# EAGLE library part LPS22DF (library st-microelectronics)
Low-power and high-precision MEMS nano pressure sensor 260-1260 hPa absolute digital output barometer
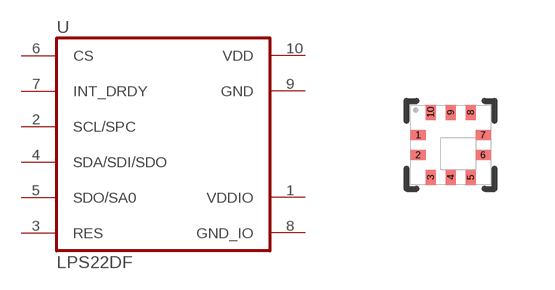
[diagram p41: symbol with the pads of HLGA-10L; footprint HLGA-10L]

Designator prefix U

## LPS22DF  [HLGA-10L]
1  VDDIO  pwr
2  SCL/SPC  in
3  RES  in
4  SDA/SDI/SDO
5  SDO/SA0  in
6  CS  in
7  INT_DRDY  in
8  GND_IO  pwr
9  GND  pwr
10  VDD  pwr

## Footprint HLGA-10L (pad centres in mm)
HLGA-10L (2.0 x 2.0 x 0.73 mm)
smd 0.375 x 0.25: 1 -0.812,0.25; 2 -0.812,-0.25; 6 0.812,-0.25; 7 0.812,0.25
smd 0.25 x 0.375: 3 -0.5,-0.812; 4 0,-0.812; 5 0.5,-0.812; 8 0.5,0.812; 9 0,0.812; 10 -0.5,0.812